# Altium footprint library all_kalex_Library.PcbLib: 234 footprints (part 8 of 15)
Each footprint in its own frame and in the unit in brackets; x right, y up, seen from the top. Pads: shape width x height; smd on the part's side, far side on the other; paste and mask are expansions set on the pad; w line width, h text height; cw(c..) or ccw(c..) is an arc to the next point about the centre after c.
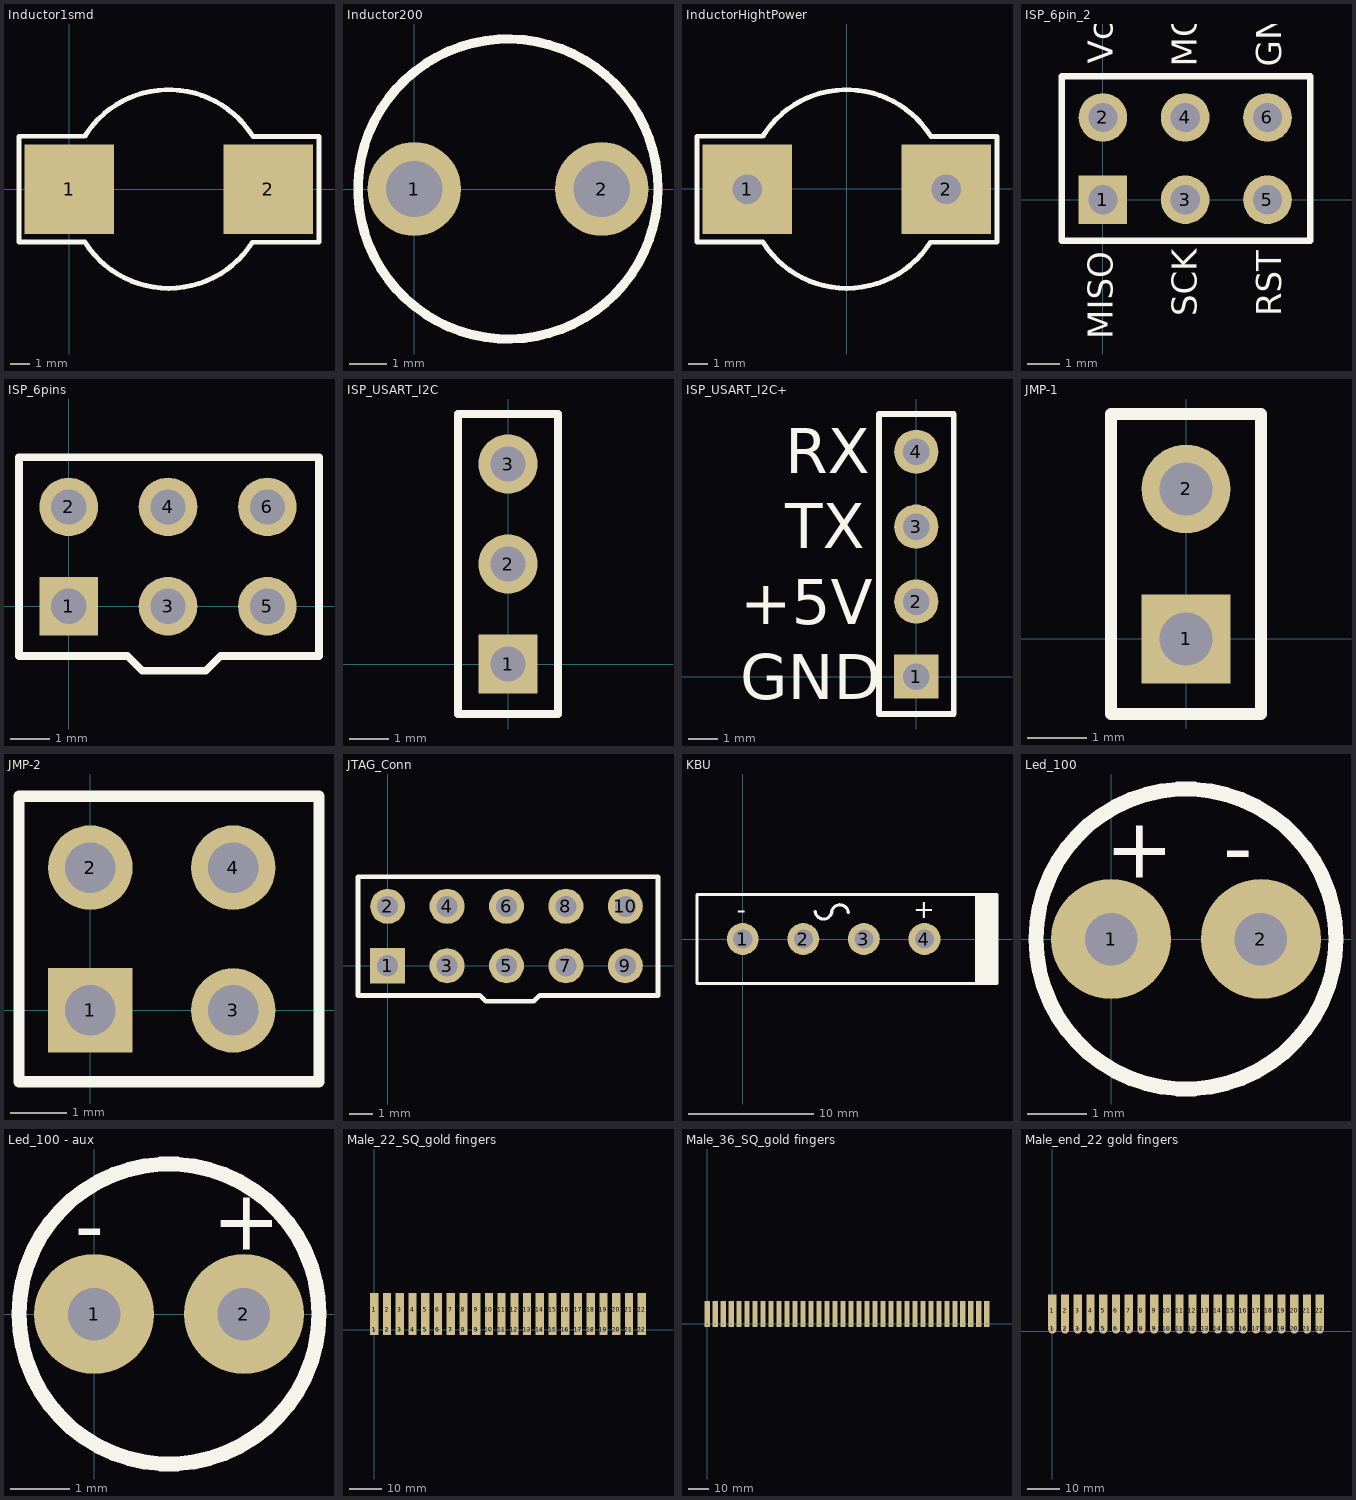
[diagram p7: the footprints below, top view; thin cyan lines are the x and y axes]

## Inductor1smd [mil]
pads (2):
  rect 180x180 smd: 1(0,0) 2(400,0)
Top Overlay:
  lines w10: -101,-105.99 31.43,-105.99 ccw(c200,0) 368.24,-106.52 502,-106.52 502,106.08 369.14,106.08 ccw(c200,1) 31.14,106.53 -101,106.53 -101,-103.99 -101,-105.99

## Inductor200 [mil]
pads (2):
  round 100 hole 60: 1(0,0) 2(200,0)
Top Overlay:
  circle w10: c100,0 r160

## InductorHightPower [mil] "InductorHightPower"
pads (2):
  rect 180x180 hole 60: 1(-200,-1) 2(200,-1)
Top Overlay:
  lines w10: -301,-106.99 -168.57,-106.99 ccw(c0,-1) 168.24,-107.52 302,-107.52 302,105.08 169.14,105.08 ccw(c0,0) -168.86,105.53 -301,105.53 -301,-104.99 -301,-106.99

## ISP_6pin_2 [mm]
pads (6):
  rect 1.5x1.5 hole 0.9: 1(0,0)
  round 1.5 hole 0.9: 2(0,2.54) 3(2.54,0) 4(2.54,2.54) 5(5.08,0) 6(5.08,2.54)
Top Overlay:
  lines w0.2: -1.27,-1.27 -1.27,3.81 6.4,3.81 6.4,-1.27 -1.27,-1.27
  text "GND" at 5.5,4.1 h0.76
  text "MOSI" at 2.9,4.1 h0.76
  text "Vcc" at 0.3,4.2 h0.76
  text "RST" at 5.5,-3.6 h0.76
  text "SCK" at 2.9,-3.6 h0.76
  text "MISO" at 0.3,-4.3 h0.76

## ISP_6pins [mm]
pads (6):
  rect 1.5x1.5 hole 0.9: 1(0,0)
  round 1.5 hole 0.9: 2(0,2.54) 3(2.54,0) 4(2.54,2.54) 5(5.08,0) 6(5.08,2.54)
Top Overlay:
  lines w0.2: -1.27,-1.27 1.499,-1.27 1.88,-1.651 3.505,-1.651 3.886,-1.27 6.4,-1.27 6.4,3.81 -1.27,3.81 -1.27,-1.27

## ISP_USART_I2C [mm]
pads (3):
  rect 1.5x1.5 hole 0.9: 1(0,0)
  round 1.5 hole 0.9: 2(0,2.54) 3(0,5.08)
Top Overlay:
  lines w0.2: -1.27,-1.27 -1.27,6.35 1.27,6.35 1.27,-1.27 -1.27,-1.27

## ISP_USART_I2C+ [mm]
pads (4):
  rect 1.5x1.5 hole 0.9: 1(0,0)
  round 1.5 hole 0.9: 2(0,2.54) 3(0,5.08) 4(0,7.62)
Top Overlay:
  lines w0.2: -1.27,-1.27 1.27,-1.27 1.27,8.9 -1.27,8.9 -1.27,-1.27
  text "RX" at -4.445,6.883 h1.52
  text "TX" at -4.445,4.343 h1.52
  text "+5V" at -5.969,1.778 h1.52
  text "GND" at -5.969,-0.762 h1.52

## JMP-1 [mm]
pads (2):
  rect 1.5x1.5 hole 0.9: 1(0,0)
  round 1.5 hole 0.9: 2(0,2.54)
Top Overlay:
  lines w0.2: -1.27,-1.27 -1.27,3.81
  lines w0.203: -1.27,-1.27 1.27,-1.27 1.27,3.81 -1.27,3.81

## JMP-2 [mm]
pads (4):
  rect 1.5x1.5 hole 0.9: 1(0,0)
  round 1.5 hole 0.9: 2(0,2.54) 3(2.54,0) 4(2.54,2.54)
Top Overlay:
  lines w0.2: -1.27,-1.27 -1.27,3.81
  lines w0.203: -1.27,-1.27 4.064,-1.27 4.064,3.81 -1.27,3.81

## JTAG_Conn [mm]
pads (10):
  rect 1.5x1.5 hole 0.9: 1(0,0)
  round 1.5 hole 0.9: 2(0,2.54) 3(2.54,0) 4(2.54,2.54) 5(5.08,0) 6(5.08,2.54) 7(7.62,0) 8(7.62,2.54) 9(10.16,0) 10(10.16,2.54)
Top Overlay:
  lines w0.2: -1.27,-1.27 -1.27,3.81 11.557,3.81 11.557,-1.27 6.502,-1.27 6.248,-1.524 4.191,-1.524 3.937,-1.27 -1.27,-1.27

## KBU [mil] "PackageKBU"
pads (4):
  round 100 hole 60: 1(0,0) 2(190,0) 3(380,0) 4(570,0)
Top Overlay:
  lines w10: 227.27,85.77 ccw(c253.27,88.77) 279,84 ; 279.27,85.77 cw(c305,81) 331,84 ; 734,-137 734,137 737,134 737,-140 742,-135 742,139 749,132 749,-138 755,-132 755,138 761,132 761,-138 765,-134 765,136 ; 773,-138 773,136 775,134 775,-140 778,-137 778,137 ; 786,140 786,-138 788,-140 788,138 ; 796.5,-140 -143.5,-140 -143.5,140 796.5,140 ; 797.5,-140 797.5,140
  text "-" at -19,64 h60
  text "+" at 535,65 h60

## Led_100 [mil] "Led"
pads (2):
  round 80 hole 35: 1(0,0) 2(100,0)
Top Overlay:
  circle w10: c50,0 r100
  text "+" at -4,41 h40
  text "-" at 75,42 h40

## Led_100 - aux [mil] "Led"
pads (2):
  round 80 hole 35: 1(0,0) 2(100,0)
Top Overlay:
  circle w10: c50,0 r100
  text "-" at -13,40 h40
  text "+" at 79,43 h40

## Male_22_SQ_gold fingers [mil]
pads (44):
  rect 100x120 hole 40: 1(0,0) 2(156,0) 3(312,0) 4(468,0) 5(624,0) 6(780,0) 7(936,0) 8(1092,0) 9(1248,0) 10(1404,0) 11(1560,0) 12(1716,0) 13(1872,0) 14(2028,0) 15(2184,0) 16(2340,0) 17(2496,0) 18(2652,0) 19(2808,0) 20(2964,0) 21(3120,0) 22(3276,0)
  rect 100x400 all layers, no hole: 1(0,250) 2(156,250) 3(312,250) 4(468,250) 5(624,250) 6(780,250) 7(936,250) 8(1092,250) 9(1248,250) 10(1404,250) 11(1560,250) 12(1716,250) 13(1872,250) 14(2028,250) 15(2184,250) 16(2340,250) 17(2496,250) 18(2652,250) 19(2808,250) 20(2964,250) 21(3120,250) 22(3276,250)

## Male_36_SQ_gold fingers [mil]
pads (72):
  rect 100x120 hole 40: 1(5460,0) 2(5304,0) 3(5148,0) 4(4992,0) 5(4836,0) 6(4680,0) 7(4524,0) 8(4368,0) 9(4212,0) 10(4056,0) 11(3900,0) 12(3744,0) 13(3588,0) 14(3432,0) 15(3276,0) 16(3120,0) 17(2964,0) 18(2808,0) 19(2652,0) 20(2496,0) 21(2340,0) 22(2184,0) 23(2028,0) 24(1872,0) 25(1716,0) 26(1560,0) 27(1404,0) 28(1248,0) 29(1092,0) 30(936,0) 31(780,0) 32(624,0) 33(468,0) 34(312,0) 35(156,0) 36(0,0)
  rect 100x400 all layers, no hole: 1(5460,250) 2(5304,250) 3(5148,250) 4(4992,250) 5(4836,250) 6(4680,250) 7(4524,250) 8(4368,250) 9(4212,250) 10(4056,250) 11(3900,250) 12(3744,250) 13(3588,250) 14(3432,250) 15(3276,250) 16(3120,250) 17(2964,250) 18(2808,250) 19(2652,250) 20(2496,250) 21(2340,250) 22(2184,250) 23(2028,250) 24(1872,250) 25(1716,250) 26(1560,250) 27(1404,250) 28(1248,250) 29(1092,250) 30(936,250) 31(780,250) 32(624,250) 33(468,250) 34(312,250) 35(156,250) 36(0,250)

## Male_end_22 gold fingers [mil]
pads (44):
  oval 100x120 hole 40 unplated: 1(0,30) 2(156,30) 3(312,30) 4(468,30) 5(624,30) 6(780,30) 7(936,30) 8(1092,30) 9(1248,30) 10(1404,30) 11(1560,30) 12(1716,30) 13(1872,30) 14(2028,30) 15(2184,30) 16(2340,30) 17(2496,30) 18(2652,30) 19(2808,30) 20(2964,30) 21(3120,30) 22(3276,30)
  rect 100x400 all layers, no hole: 1(0,250) 2(156,250) 3(312,250) 4(468,250) 5(624,250) 6(780,250) 7(936,250) 8(1092,250) 9(1248,250) 10(1404,250) 11(1560,250) 12(1716,250) 13(1872,250) 14(2028,250) 15(2184,250) 16(2340,250) 17(2496,250) 18(2652,250) 19(2808,250) 20(2964,250) 21(3120,250) 22(3276,250)